# EAGLE library part DG4052E (library DG4051E)
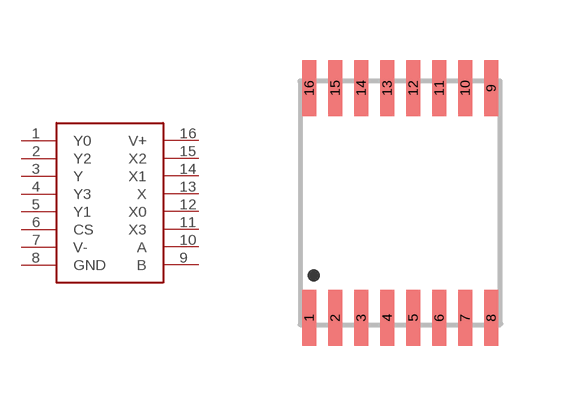
[diagram p1: symbol with the pads of DG4052E; footprint DG4052E]

Designator prefix -

## DG4052E  [DG4052E]
1  Y0
2  Y2
3  Y
4  Y3
5  Y1
6  CS
7  V-
8  GND
9  B
10  A
11  X3
12  X0
13  X
14  X1
15  X2
16  V+

## Footprint DG4052E (pad centres in mm)
smd 0.35 x 1.4: 1 -2.45,-2.875; 2 -1.8,-2.875; 3 -1.15,-2.875; 4 -0.5,-2.875; 5 0.15,-2.875; 6 0.8,-2.875; 7 1.45,-2.875; 8 2.1,-2.875; 9 2.1,2.875; 10 1.45,2.875; 11 0.8,2.875; 12 0.15,2.875; 13 -0.5,2.875; 14 -1.15,2.875; 15 -1.8,2.875; 16 -2.45,2.875